# Altium schematic symbol library NekokeCore自用封装库.SchLib: 3 symbols
Pins are listed as number, name and electrical type; pins without a type are passive.

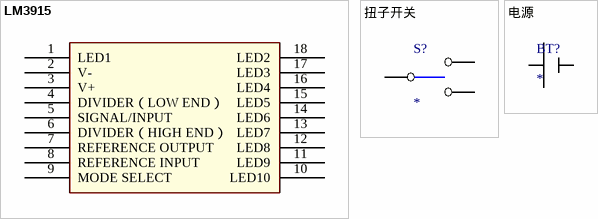
[diagram p0: symbols LM3915 to 电源]

## LM3915
designator LM3915
一款可以控制10个LED灯的电平IC
footprint LM3915 (一款可以控制10个LED灯的电平IC)
pins: 1 LED1, 2 V-, 3 V+, 4 DIVIDER（LOW END）, 5 SIGNAL/INPUT, 6 DIVIDER（HIGH END）, 7 REFERENCE OUTPUT, 8 REFERENCE INPUT, 9 MODE SELECT, 10 LED10, 11 LED9, 12 LED8, 13 LED7, 14 LED6, 15 LED5, 16 LED4, 17 LED3, 18 LED2

## 扭子开关
designator S?
footprint 扭子开关
pins: 1, 2, 3

## 电源
designator BT?
footprint 电源端子
pins: *, *